# EAGLE library part M20-9980546 (library CONNECTORs)
Board-To-Board Connector, 2.54 mm, 10 Contacts, Header, M20 Series, Through Hole, 2 Rows
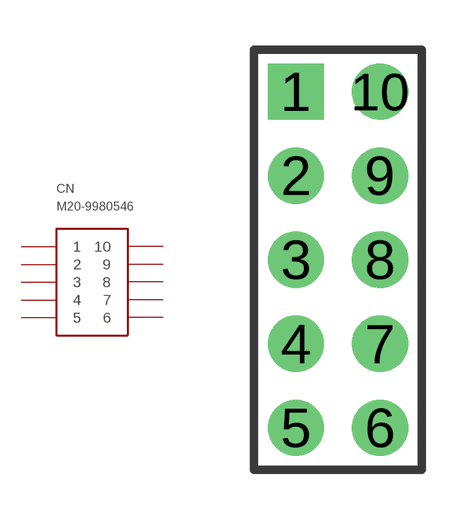
[diagram p36: symbol with the pads of 2X5HEADER; footprint 2X5HEADER]

Designator prefix CN

## M20-9980546 (FARNELL: 1022236; PRICE_PER: 0.215; VALUE: 2X5PIN MALE)  [2X5HEADER]
1  1
2  2
3  3
4  4
5  5
6  6
7  7
8  8
9  9
10  10

## Footprint 2X5HEADER (pad centres in mm)
drill 1 pad 1.7 square: 1 -1.27,5.08
drill 1 pad 1.7: 2 -1.27,2.54; 3 -1.27,0; 4 -1.27,-2.54; 5 -1.27,-5.08; 6 1.27,-5.08; 7 1.27,-2.54; 8 1.27,0; 9 1.27,2.54; 10 1.27,5.08